# Altium footprint library E32-900M30S.PcbLib: 1 footprints
Each footprint in its own frame and in the unit in brackets; x right, y up, seen from the top. Pads: shape width x height; smd on the part's side, far side on the other; paste and mask are expansions set on the pad; w line width, h text height; cw(c..) or ccw(c..) is an arc to the next point about the centre after c.
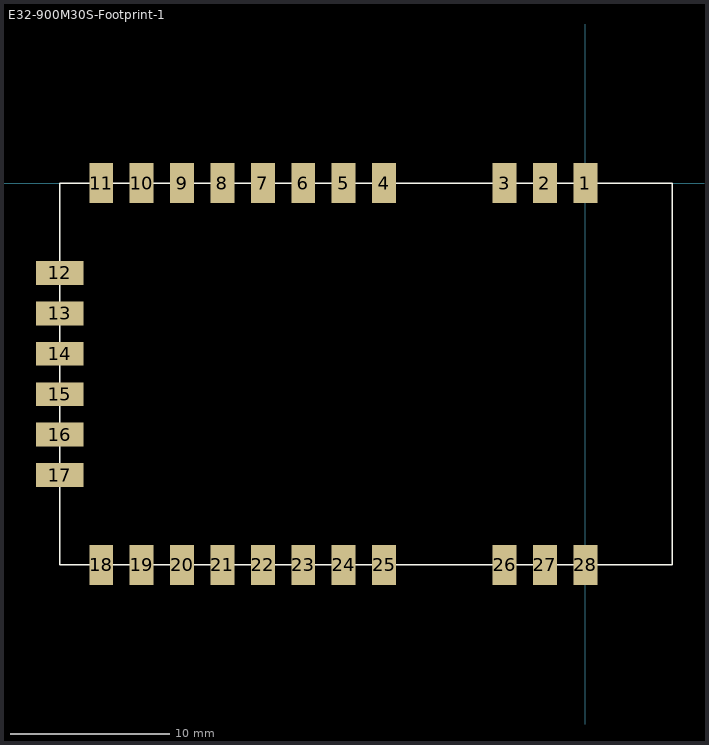
[diagram p0: the footprint, top view; thin cyan lines are the x and y axes]

## E32-900M30S-Footprint-1 [mm]
pads (28):
  rect 1.5x2.5 smd: 1(0,0) 2(-2.54,0) 3(-5.08,0) 4(-12.65,0) 5(-15.19,0) 6(-17.73,0) 7(-20.27,0) 8(-22.81,0) 9(-25.35,0) 10(-27.89,0) 11(-30.43,0) 18(-30.43,-24) 19(-27.89,-24) 20(-25.35,-24) 21(-22.81,-24) 22(-20.27,-24) 23(-17.73,-24) 24(-15.19,-24) 25(-12.65,-24) 26(-5.08,-24) 27(-2.54,-24) 28(0,-24)
  rect 3x1.5 smd: 12(-33.04,-5.65) 13(-33.04,-8.19) 14(-33.04,-10.73) 15(-33.04,-13.27) 16(-33.04,-15.81) 17(-33.04,-18.35)
Top Overlay:
  lines w0.1: -33.04,-24 5.46,-24 5.46,0 -33.04,0 -33.04,-24
3D body "E22-900M30S.STEP": height 3.88, standoff 0, extent -33.04,-24.02 5.47,0